# EAGLE library part AK130/12 (library PTR_AK130)
ANSCHLUSSKLEMME AK130 (12POLIG)
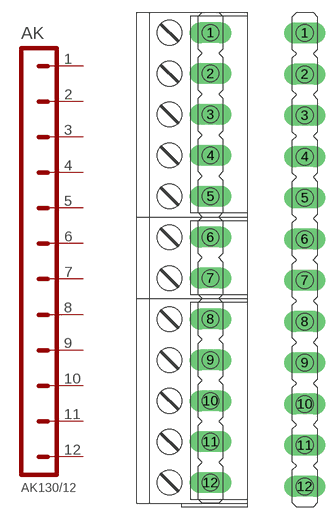
[diagram p6: symbol with the pads of AK12; footprints AK12, STL12]

Designator prefix AK

## AK130/12  [AK12]
1  P$1
2  P$2
3  P$3
4  P$4
5  P$5
6  P$6
7  P$7
8  P$8
9  P$9
10  P$10
11  P$11
12  P$12

## AK130/12_STL  [STL12]
Pads as for AK12

## Footprint AK12 (pad centres in mm)
AK130 (12POLIG) 1x AK130/2-5.0-GRAU 2x AK130/5-5.0-GRAU STL130/24-5.0-V-SCHWARZ
drill 1.5 pad 2.54 long: 1 0,27.5; 2 0,22.5; 3 0,17.5; 4 0,12.5; 5 0,7.5; 6 0,2.5; 7 0,-2.5; 8 0,-7.5; 9 0,-12.5; 10 0,-17.5; 11 0,-22.5; 12 0,-27.5

## Footprint STL12 (pad centres in mm)
STL130 (12POLIG) STL130/24-5.0-V-SCHWARZ
drill 1.5 pad 2.54 long: 1 0,27.5; 2 0,22.5; 3 0,17.5; 4 0,12.5; 5 0,7.5; 6 0,2.5; 7 0,-2.5; 8 0,-7.5; 9 0,-12.5; 10 0,-17.5; 11 0,-22.5; 12 0,-27.5